# Altium schematic symbol library SCH - MCU - STM32 - ST MICROELECTRONICS STM32G070RBTX LQFP64.SchLib: 1 symbol
Pins are listed as number, name and electrical type; pins without a type are passive.

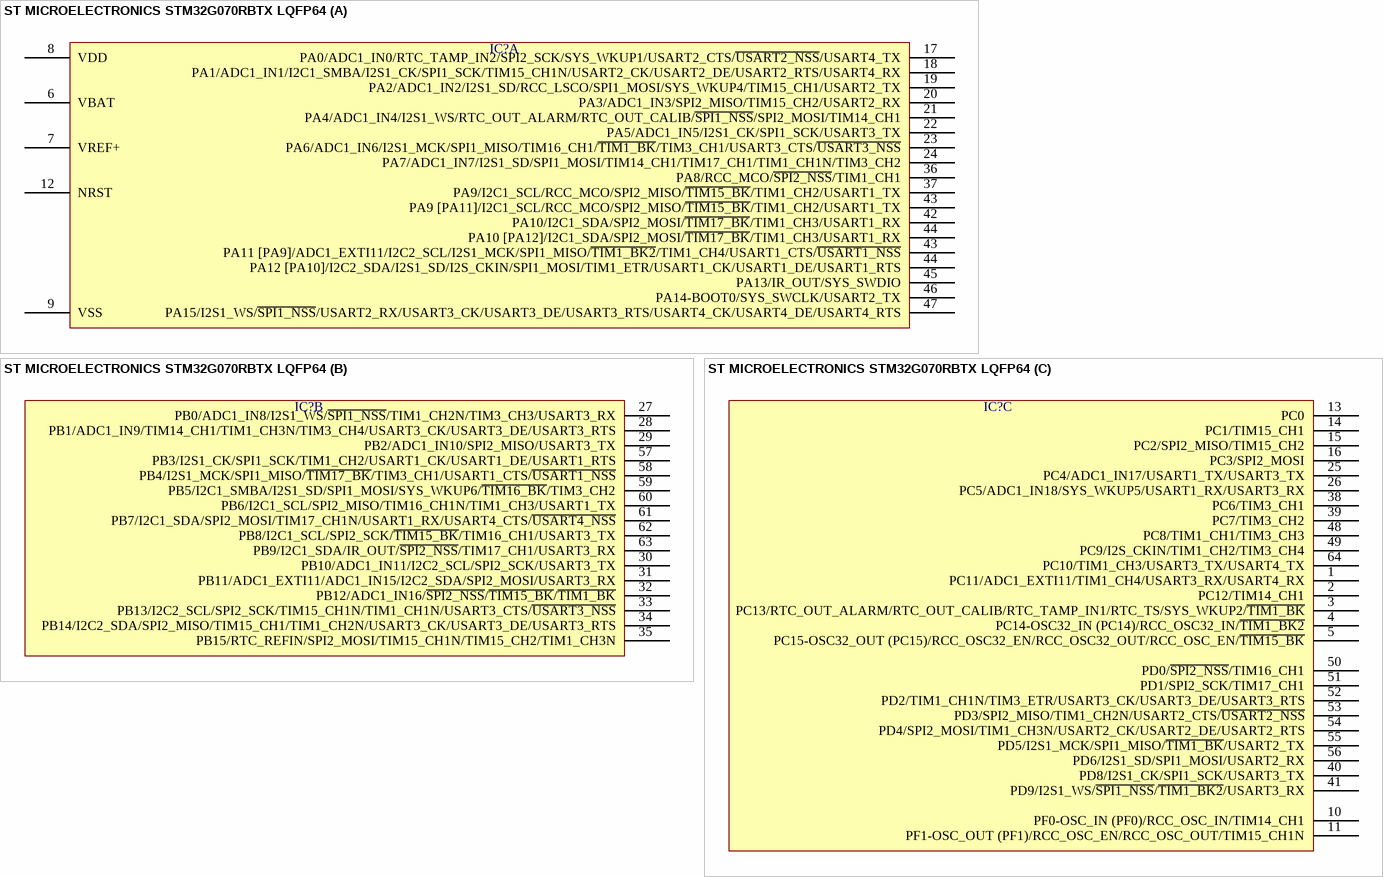
[diagram p0: symbol ST MICROELECTRONICS STM32G070RBTX LQFP64]

## ST MICROELECTRONICS STM32G070RBTX LQFP64
designator IC?  (value not drawn)
part A pins: 6 VBAT, 7 VREF+, 8 VDD, 9 VSS, 12 NRST, 17 PA0/ADC1_IN0/RTC_TAMP_IN2/SPI2_SCK/SYS_WKUP1/USART2_CTS/~{USART2_NSS}/USART4_TX, 18 PA1/ADC1_IN1/I2C1_SMBA/I2S1_CK/SPI1_SCK/TIM15_CH1N/USART2_CK/USART2_DE/USART2_RTS/USART4_RX, 19 PA2/ADC1_IN2/I2S1_SD/RCC_LSCO/SPI1_MOSI/SYS_WKUP4/TIM15_CH1/USART2_TX, 20 PA3/ADC1_IN3/SPI2_MISO/TIM15_CH2/USART2_RX, 21 PA4/ADC1_IN4/I2S1_WS/RTC_OUT_ALARM/RTC_OUT_CALIB/~{SPI1_NSS}/SPI2_MOSI/TIM14_CH1, 22 PA5/ADC1_IN5/I2S1_CK/SPI1_SCK/USART3_TX, 23 PA6/ADC1_IN6/I2S1_MCK/SPI1_MISO/TIM16_CH1/~{TIM1_BK}/TIM3_CH1/USART3_CTS/~{USART3_NSS}, 24 PA7/ADC1_IN7/I2S1_SD/SPI1_MOSI/TIM14_CH1/TIM17_CH1/TIM1_CH1N/TIM3_CH2, 36 PA8/RCC_MCO/~{SPI2_NSS}/TIM1_CH1, 37 PA9/I2C1_SCL/RCC_MCO/SPI2_MISO/~{TIM15_BK}/TIM1_CH2/USART1_TX, 42 PA10/I2C1_SDA/SPI2_MOSI/~{TIM17_BK}/TIM1_CH3/USART1_RX, 43 PA9 [PA11]/I2C1_SCL/RCC_MCO/SPI2_MISO/~{TIM15_BK}/TIM1_CH2/USART1_TX, 43 PA11 [PA9]/ADC1_EXTI11/I2C2_SCL/I2S1_MCK/SPI1_MISO/~{TIM1_BK2}/TIM1_CH4/USART1_CTS/~{USART1_NSS}, 44 PA10 [PA12]/I2C1_SDA/SPI2_MOSI/~{TIM17_BK}/TIM1_CH3/USART1_RX, 44 PA12 [PA10]/I2C2_SDA/I2S1_SD/I2S_CKIN/SPI1_MOSI/TIM1_ETR/USART1_CK/USART1_DE/USART1_RTS, 45 PA13/IR_OUT/SYS_SWDIO, 46 PA14-BOOT0/SYS_SWCLK/USART2_TX, 47 PA15/I2S1_WS/~{SPI1_NSS}/USART2_RX/USART3_CK/USART3_DE/USART3_RTS/USART4_CK/USART4_DE/USART4_RTS
part B pins: 27 PB0/ADC1_IN8/I2S1_WS/~{SPI1_NSS}/TIM1_CH2N/TIM3_CH3/USART3_RX, 28 PB1/ADC1_IN9/TIM14_CH1/TIM1_CH3N/TIM3_CH4/USART3_CK/USART3_DE/USART3_RTS, 29 PB2/ADC1_IN10/SPI2_MISO/USART3_TX, 30 PB10/ADC1_IN11/I2C2_SCL/SPI2_SCK/USART3_TX, 31 PB11/ADC1_EXTI11/ADC1_IN15/I2C2_SDA/SPI2_MOSI/USART3_RX, 32 PB12/ADC1_IN16/~{SPI2_NSS}/~{TIM15_BK}/~{TIM1_BK}, 33 PB13/I2C2_SCL/SPI2_SCK/TIM15_CH1N/TIM1_CH1N/USART3_CTS/~{USART3_NSS}, 34 PB14/I2C2_SDA/SPI2_MISO/TIM15_CH1/TIM1_CH2N/USART3_CK/USART3_DE/USART3_RTS, 35 PB15/RTC_REFIN/SPI2_MOSI/TIM15_CH1N/TIM15_CH2/TIM1_CH3N, 57 PB3/I2S1_CK/SPI1_SCK/TIM1_CH2/USART1_CK/USART1_DE/USART1_RTS, 58 PB4/I2S1_MCK/SPI1_MISO/~{TIM17_BK}/TIM3_CH1/USART1_CTS/~{USART1_NSS}, 59 PB5/I2C1_SMBA/I2S1_SD/SPI1_MOSI/SYS_WKUP6/~{TIM16_BK}/TIM3_CH2, 60 PB6/I2C1_SCL/SPI2_MISO/TIM16_CH1N/TIM1_CH3/USART1_TX, 61 PB7/I2C1_SDA/SPI2_MOSI/TIM17_CH1N/USART1_RX/USART4_CTS/~{USART4_NSS}, 62 PB8/I2C1_SCL/SPI2_SCK/~{TIM15_BK}/TIM16_CH1/USART3_TX, 63 PB9/I2C1_SDA/IR_OUT/~{SPI2_NSS}/TIM17_CH1/USART3_RX
part C pins: 1 PC11/ADC1_EXTI11/TIM1_CH4/USART3_RX/USART4_RX, 2 PC12/TIM14_CH1, 3 PC13/RTC_OUT_ALARM/RTC_OUT_CALIB/RTC_TAMP_IN1/RTC_TS/SYS_WKUP2/~{TIM1_BK}, 4 PC14-OSC32_IN (PC14)/RCC_OSC32_IN/~{TIM1_BK2}, 5 PC15-OSC32_OUT (PC15)/RCC_OSC32_EN/RCC_OSC32_OUT/RCC_OSC_EN/~{TIM15_BK}, 10 PF0-OSC_IN (PF0)/RCC_OSC_IN/TIM14_CH1, 11 PF1-OSC_OUT (PF1)/RCC_OSC_EN/RCC_OSC_OUT/TIM15_CH1N, 13 PC0, 14 PC1/TIM15_CH1, 15 PC2/SPI2_MISO/TIM15_CH2, 16 PC3/SPI2_MOSI, 25 PC4/ADC1_IN17/USART1_TX/USART3_TX, 26 PC5/ADC1_IN18/SYS_WKUP5/USART1_RX/USART3_RX, 38 PC6/TIM3_CH1, 39 PC7/TIM3_CH2, 40 PD8/I2S1_CK/SPI1_SCK/USART3_TX, 41 PD9/I2S1_WS/~{SPI1_NSS}/~{TIM1_BK2}/USART3_RX, 48 PC8/TIM1_CH1/TIM3_CH3, 49 PC9/I2S_CKIN/TIM1_CH2/TIM3_CH4, 50 PD0/~{SPI2_NSS}/TIM16_CH1, 51 PD1/SPI2_SCK/TIM17_CH1, 52 PD2/TIM1_CH1N/TIM3_ETR/USART3_CK/USART3_DE/USART3_RTS, 53 PD3/SPI2_MISO/TIM1_CH2N/USART2_CTS/~{USART2_NSS}, 54 PD4/SPI2_MOSI/TIM1_CH3N/USART2_CK/USART2_DE/USART2_RTS, 55 PD5/I2S1_MCK/SPI1_MISO/~{TIM1_BK}/USART2_TX, 56 PD6/I2S1_SD/SPI1_MOSI/USART2_RX, 64 PC10/TIM1_CH3/USART3_TX/USART4_TX